# Altium schematic symbol library C2220C143KFGLCAUTO.SchLib: 1 symbol
Pins are listed as number, name and electrical type; pins without a type are passive.

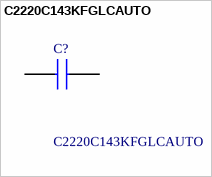
[diagram p0: symbol C2220C143KFGLCAUTO]

## C2220C143KFGLCAUTO
designator C?
KONNEKT Auto C0G, Ceramic, 0.014 uF, 10%, 1500 VDC, 1800 VDC, 125C, -55C, C0G, 0.1 % , 71.429 GOhms, 650 mg, 300, 78  Weeks, 120; Manufacturer_Name: KEMET; Geometry.Height: 5.5mm; Mouser Part Number: 80-C2220C143KFGLAUTO; Mouser Price/Stock: https://www.mouser.co.uk/ProductDetail/KEMET/C2220C143KFGLCAUTO?qs=CiayqK2gdcIbCR5xEcwEIg%3D%3D; Manufacturer_Part_Number: C2220C143KFGLCAUTO; Datasheet Link: https://content.kemet.com/datasheets/KEM_C1113_KONNEKT_C0G.pdf
footprint CAPC5750X550N
pins: 1, 2